# Altium integrated library NSC Interface Line Driver.IntLib: 119 symbols (part 1 of 3)
Pins are listed as number, name and electrical type; pins without a type are passive.

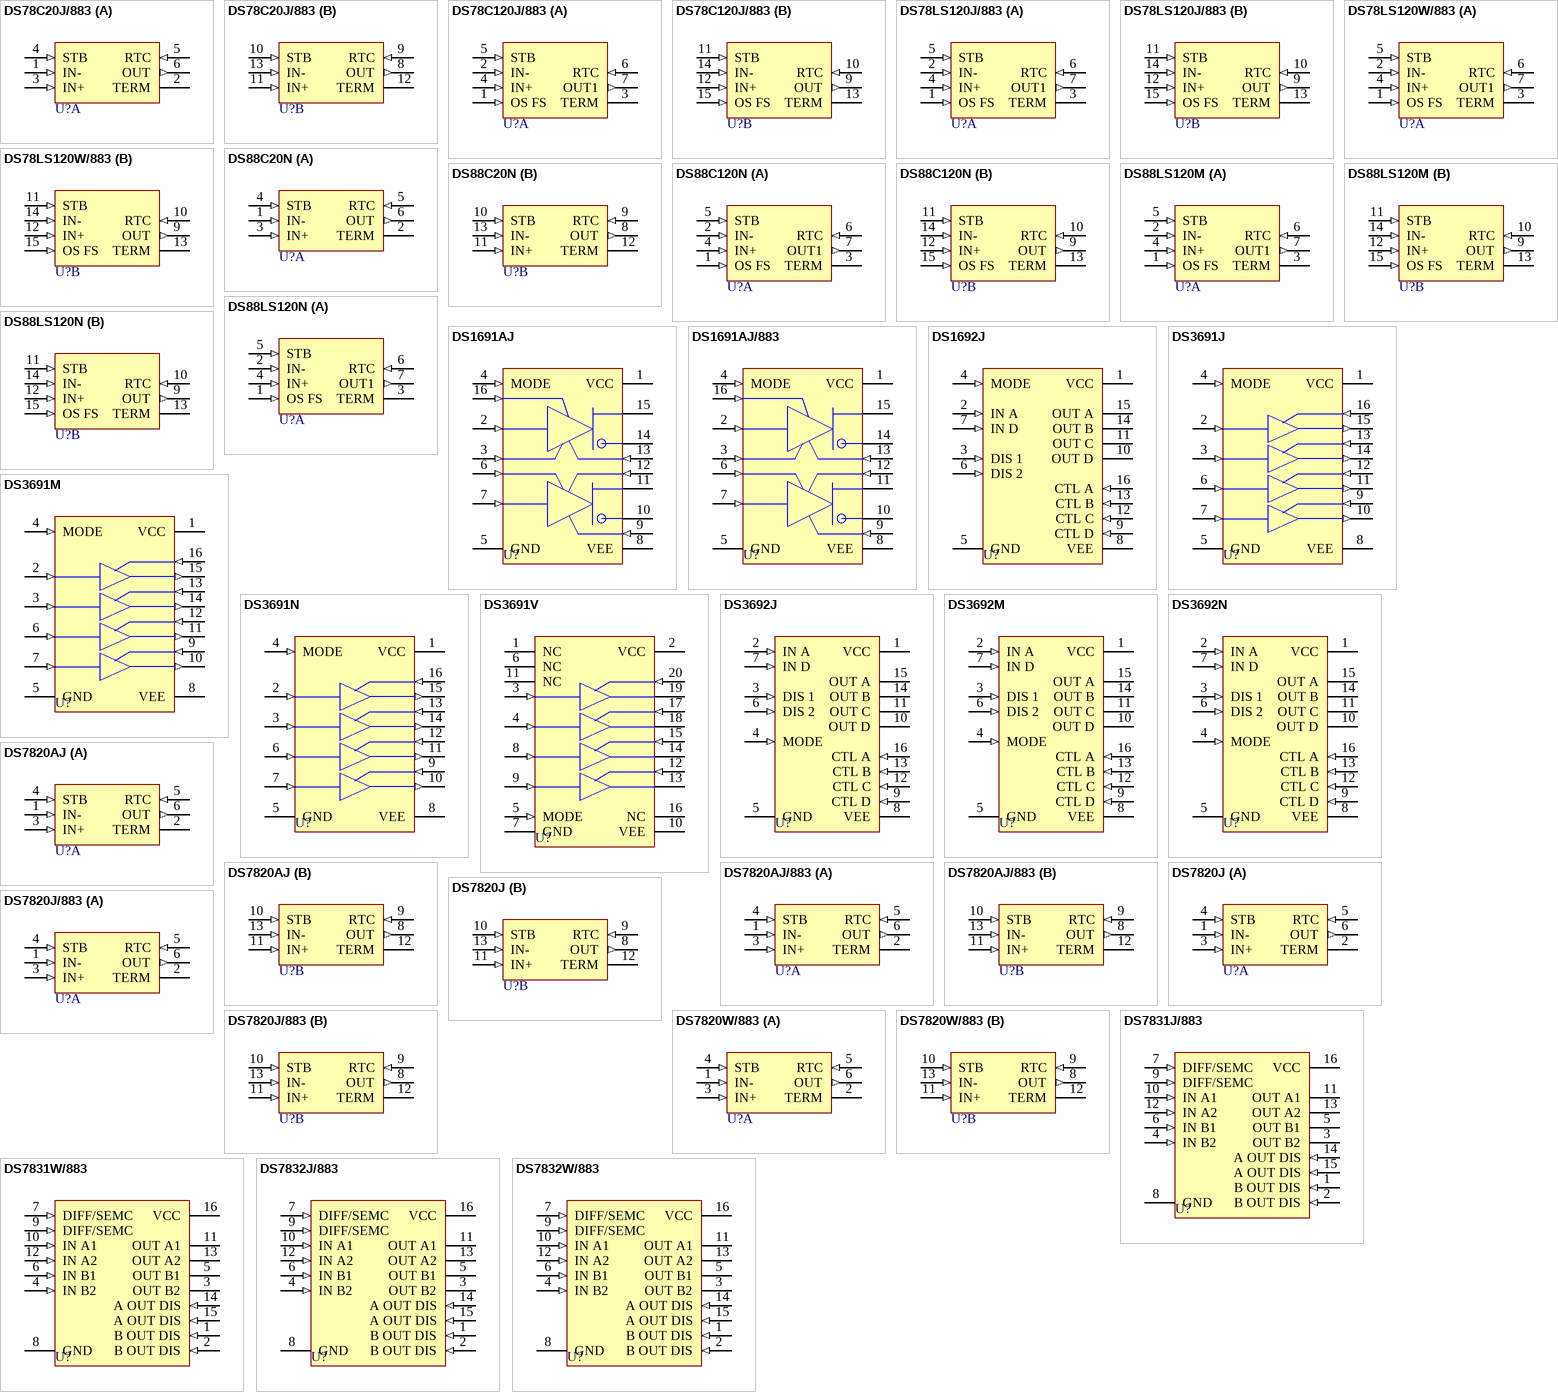
[diagram p0: symbols DS78C20J/883 to DS7832W/883]

## DS78C20J/883
designator U?
Dual CMOS Compatible Differential Line Receiver; Published: 15-Apr-2002; LatestRevisionDate: 06-Jun-2005; LatestRevisionNote: Stylized 3D Model Added.; DatasheetVersion: May-1998; PackageVersion: 2000; PackageReference: J14A; Publisher: Altium Limited; PackageDescription: DIP; 14 Leads; Row Spacing 7.62 mm; Pitch 2.54 mm; ComponentLink1Description: Manufacturer Link; ComponentLink1URL: http://www.national.com/; ComponentLink2Description: Datasheet; ComponentLink2URL: http://www.national.com/ds.cgi/DS/DS78C20.pdf; ComponentLink3Description: URL Link1; ComponentLink3URL: http://www.national.com/pf/DS/DS78C20.html
footprint J14A (DIP; 14 Leads; Row Spacing 7.62 mm; Pitch 2.54 mm)
3D model J14A (DIP; 14 Leads; Row Spacing 7.62 mm; Pitch 2.54 mm)
pins on every part: 7 GND (power) hidden to GND, 14 VCC (power) hidden to VCC
part A pins: 1 IN- (in), 2 TERM, 3 IN+ (in), 4 STB (in), 5 RTC (in), 6 OUT (out)
part B pins: 8 OUT (out), 9 RTC (in), 10 STB (in), 11 IN+ (in), 12 TERM, 13 IN- (in)

## DS78C120J/883
designator U?
Dual CMOS Compatible Differential Line Receiver; Published: 15-Apr-2002; LatestRevisionDate: 06-Jun-2005; LatestRevisionNote: Stylized 3D Model Added.; DatasheetVersion: May-1999; PackageVersion: 2000; PackageReference: J16A; Publisher: Altium Limited; PackageDescription: DIP; 16 Leads; Row Spacing 7.62 mm; Pitch 2.54 mm; ComponentLink1Description: Manufacturer Link; ComponentLink1URL: http://www.national.com/; ComponentLink2Description: Datasheet; ComponentLink2URL: http://www.national.com/ds.cgi/DS/DS78C120.pdf; ComponentLink3Description: URL Link1; ComponentLink3URL: http://www.national.com/pf/DS/DS78C120.html
footprint J16A (DIP; 16 Leads; Row Spacing 7.62 mm; Pitch 2.54 mm)
3D model J16A (DIP; 16 Leads; Row Spacing 7.62 mm; Pitch 2.54 mm)
pins on every part: 8 GND (power) hidden to GND, 16 VCC (power) hidden to VCC
part A pins: 1 OS FS (in), 2 IN- (in), 3 TERM, 4 IN+ (in), 5 STB (in), 6 RTC (in), 7 OUT1 (out)
part B pins: 9 OUT (out), 10 RTC (in), 11 STB (in), 12 IN+ (in), 13 TERM, 14 IN- (in), 15 OS FS (in)

## DS78LS120J/883
designator U?
Dual Differential Line Receiver (Noise Filtering and Fail-Safe); Published: 15-Apr-2002; LatestRevisionDate: 06-Jun-2005; LatestRevisionNote: Stylized 3D Model Added.; DatasheetVersion: Sep-1999; PackageVersion: 2000; PackageReference: J16A; Publisher: Altium Limited; PackageDescription: DIP; 16 Leads; Row Spacing 7.62 mm; Pitch 2.54 mm; ComponentLink1Description: Manufacturer Link; ComponentLink1URL: http://www.national.com/; ComponentLink2Description: Datasheet; ComponentLink2URL: http://www.national.com/ds.cgi/DS/DS78LS120.pdf; ComponentLink3Description: URL Link1; ComponentLink3URL: http://www.national.com/pf/DS/DS78LS120.html
footprint J16A (DIP; 16 Leads; Row Spacing 7.62 mm; Pitch 2.54 mm)
3D model J16A (DIP; 16 Leads; Row Spacing 7.62 mm; Pitch 2.54 mm)
pins on every part: 8 GND (power) hidden to GND, 16 VCC (power) hidden to VCC
part A pins: 1 OS FS (in), 2 IN- (in), 3 TERM, 4 IN+ (in), 5 STB (in), 6 RTC (in), 7 OUT1 (out)
part B pins: 9 OUT (out), 10 RTC (in), 11 STB (in), 12 IN+ (in), 13 TERM, 14 IN- (in), 15 OS FS (in)

## DS78LS120W/883
designator U?
Dual Differential Line Receiver (Noise Filtering and Fail-Safe); ComponentAvailability: Obsolete; Published: 15-Apr-2002; LatestRevisionDate: 06-Jun-2005; LatestRevisionNote: Stylized 3D Model Added.; DatasheetVersion: Sep-1999; PackageVersion: 2000; PackageReference: W16A; Publisher: Altium Limited; PackageDescription: DFP; 16 Leads; Body 9.9 x 7.6 mm (LxW max); Pitch 1.27 mm; ComponentLink1Description: Manufacturer Link; ComponentLink1URL: http://www.national.com/; ComponentLink2Description: Datasheet; ComponentLink2URL: http://www.national.com/ds.cgi/DS/DS78LS120.pdf; ComponentLink3Description: Discontinuation Notice; ComponentLink3URL: http://www.national.com/obs/obsolescence.txt; ComponentLink4Description: URL Link1; ComponentLink4URL: http://www.national.com/pf/DS/DS78LS120.html
footprint W16A (DFP; 16 Leads; Body 9.9 x 7.6 mm (LxW max); Pitch 1.27 mm)
3D model W16A (DFP; 16 Leads; Body 9.9 x 7.6 mm (LxW max); Pitch 1.27 mm)
pins on every part: 8 GND (power) hidden to GND, 16 VCC (power) hidden to VCC
part A pins: 1 OS FS (in), 2 IN- (in), 3 TERM, 4 IN+ (in), 5 STB (in), 6 RTC (in), 7 OUT1 (out)
part B pins: 9 OUT (out), 10 RTC (in), 11 STB (in), 12 IN+ (in), 13 TERM, 14 IN- (in), 15 OS FS (in)

## DS88C20N
designator U?
Dual CMOS Compatible Differential Line Receiver; ComponentAvailability: Obsolete; Published: 15-Apr-2002; LatestRevisionDate: 06-Jun-2005; LatestRevisionNote: Stylized 3D Model Added.; DatasheetVersion: May-1998; PackageVersion: 2000; PackageReference: N14A; Publisher: Altium Limited; PackageDescription: DIP; 14 Leads; Row Spacing 7.62 mm; Pitch 2.54 mm; ComponentLink1Description: Manufacturer Link; ComponentLink1URL: http://www.national.com/; ComponentLink2Description: Datasheet; ComponentLink2URL: http://www.national.com/ds.cgi/DS/DS78C20.pdf; ComponentLink3Description: Discontinuation Notice; ComponentLink3URL: http://www.national.com/obs/obsolescence.txt; ComponentLink4Description: URL Link1; ComponentLink4URL: http://www.national.com/pf/DS/DS88C20.html
footprint N14A (DIP; 14 Leads; Row Spacing 7.62 mm; Pitch 2.54 mm)
3D model N14A (DIP; 14 Leads; Row Spacing 7.62 mm; Pitch 2.54 mm)
pins on every part: 7 GND (power) hidden to GND, 14 VCC (power) hidden to VCC
part A pins: 1 IN- (in), 2 TERM, 3 IN+ (in), 4 STB (in), 5 RTC (in), 6 OUT (out)
part B pins: 8 OUT (out), 9 RTC (in), 10 STB (in), 11 IN+ (in), 12 TERM, 13 IN- (in)

## DS88C120N
designator U?
Dual CMOS Compatible Differential Line Receiver; ComponentAvailability: Obsolete; Published: 15-Apr-2002; LatestRevisionDate: 06-Jun-2005; LatestRevisionNote: Stylized 3D Model Added.; DatasheetVersion: 1996; PackageVersion: 2000; PackageReference: N16A; Publisher: Altium Limited; PackageDescription: DIP; 16 Leads; Row Spacing 7.62 mm; Pitch 2.54 mm; ComponentLink1Description: Manufacturer Link; ComponentLink1URL: http://www.national.com/; ComponentLink2Description: Discontinuation Notice; ComponentLink2URL: http://www.national.com/obs/obsolescence.txt
footprint N16A (DIP; 16 Leads; Row Spacing 7.62 mm; Pitch 2.54 mm)
3D model N16A (DIP; 16 Leads; Row Spacing 7.62 mm; Pitch 2.54 mm)
pins on every part: 8 GND (power) hidden to GND, 16 VCC (power) hidden to VCC
part A pins: 1 OS FS (in), 2 IN- (in), 3 TERM, 4 IN+ (in), 5 STB (in), 6 RTC (in), 7 OUT1 (out)
part B pins: 9 OUT (out), 10 RTC (in), 11 STB (in), 12 IN+ (in), 13 TERM, 14 IN- (in), 15 OS FS (in)

## DS88LS120M
designator U?
Dual Differential Line Receiver (Noise Filtering and Fail-Safe); ComponentAvailability: Obsolete; Published: 15-Apr-2002; LatestRevisionDate: 13-Apr-2006; LatestRevisionNote: IPC-7351 Footprint Added.; DatasheetVersion: 1996; PackageVersion: 2000; PackageReference: M16A; Publisher: Altium Limited; PackageDescription: 16-Pin Small Outline Integrated Circuit 1.27 mm Pitch; Code_IPC: SOIC127P600-16; ComponentLink1Description: Manufacturer Link; ComponentLink1URL: http://www.national.com/; ComponentLink2Description: Discontinuation Notice; ComponentLink2URL: http://www.national.com/obs/obsolescence.txt
footprint M16A_N (SOIC, 16-Leads, Body 9.9x3.9mm, Pitch 1.27mm, IPC Medium Density)
footprint M16A_L (SOIC, 16-Leads, Body 9.9x3.9mm, Pitch 1.27mm, IPC High Density)
footprint M16A_M (SOIC, 16-Leads, Body 9.9x3.9mm, Pitch 1.27mm, IPC Low Density)
3D model M16A (16-Pin Small Outline Integrated Circuit 1.27 mm Pitch)
pins on every part: 8 GND (power) hidden to GND, 16 VCC (power) hidden to VCC
part A pins: 1 OS FS (in), 2 IN- (in), 3 TERM, 4 IN+ (in), 5 STB (in), 6 RTC (in), 7 OUT1 (out)
part B pins: 9 OUT (out), 10 RTC (in), 11 STB (in), 12 IN+ (in), 13 TERM, 14 IN- (in), 15 OS FS (in)

## DS88LS120N
designator U?
Dual Differential Line Receiver (Noise Filtering and Fail-Safe); ComponentAvailability: Obsolete; Published: 15-Apr-2002; LatestRevisionDate: 06-Jun-2005; LatestRevisionNote: Stylized 3D Model Added.; DatasheetVersion: 1996; PackageVersion: 2000; PackageReference: N16A; Publisher: Altium Limited; PackageDescription: DIP; 16 Leads; Row Spacing 7.62 mm; Pitch 2.54 mm; ComponentLink1Description: Manufacturer Link; ComponentLink1URL: http://www.national.com/; ComponentLink2Description: Discontinuation Notice; ComponentLink2URL: http://www.national.com/obs/obsolescence.txt
footprint N16A (DIP; 16 Leads; Row Spacing 7.62 mm; Pitch 2.54 mm)
3D model N16A (DIP; 16 Leads; Row Spacing 7.62 mm; Pitch 2.54 mm)
pins on every part: 8 GND (power) hidden to GND, 16 VCC (power) hidden to VCC
part A pins: 1 OS FS (in), 2 IN- (in), 3 TERM, 4 IN+ (in), 5 STB (in), 6 RTC (in), 7 OUT1 (out)
part B pins: 9 OUT (out), 10 RTC (in), 11 STB (in), 12 IN+ (in), 13 TERM, 14 IN- (in), 15 OS FS (in)

## DS1691AJ
designator U?
Line Driver with Tri-State Output; Published: 15-Apr-2002; LatestRevisionDate: 06-Jun-2005; LatestRevisionNote: Stylized 3D Model Added.; DatasheetVersion: 1996; PackageVersion: 2000; PackageReference: J16A; Publisher: Altium Limited; PackageDescription: DIP; 16 Leads; Row Spacing 7.62 mm; Pitch 2.54 mm; ComponentLink1Description: Manufacturer Link; ComponentLink1URL: http://www.national.com/; ComponentLink2Description: Datasheet; ComponentLink2URL: http://www.national.com/ds.cgi/DS/DS1691A.pdf; ComponentLink3Description: URL Link1; ComponentLink3URL: http://www.national.com/pf/DS/DS1691A.html
footprint J16A (DIP; 16 Leads; Row Spacing 7.62 mm; Pitch 2.54 mm)
3D model J16A (DIP; 16 Leads; Row Spacing 7.62 mm; Pitch 2.54 mm)
pins: 1 VCC (power), 2 IN A (in), 3 IN B/DIS (in), 4 MODE (in), 5 GND (power), 6 IN C/DIS (in), 7 IN D (in), 8 VEE (power), 9 CTL D (in), 10 OUT D (hiz), 11 OUT C (hiz), 12 CTL C (in), 13 CTL B (in), 14 OUT B (hiz), 15 OUT A (hiz), 16 CTL A (in)

## DS1691AJ/883
designator U?
Line Driver with Tri-State Output; Published: 15-Apr-2002; LatestRevisionDate: 06-Jun-2005; LatestRevisionNote: Stylized 3D Model Added.; DatasheetVersion: 1996; PackageVersion: 2000; PackageReference: J16A; Publisher: Altium Limited; PackageDescription: DIP; 16 Leads; Row Spacing 7.62 mm; Pitch 2.54 mm; ComponentLink1Description: Manufacturer Link; ComponentLink1URL: http://www.national.com/; ComponentLink2Description: Datasheet; ComponentLink2URL: http://www.national.com/ds.cgi/DS/DS1691A.pdf; ComponentLink3Description: URL Link1; ComponentLink3URL: http://www.national.com/pf/DS/DS1691A.html
footprint J16A (DIP; 16 Leads; Row Spacing 7.62 mm; Pitch 2.54 mm)
3D model J16A (DIP; 16 Leads; Row Spacing 7.62 mm; Pitch 2.54 mm)
pins: 1 VCC (power), 2 IN A (in), 3 IN B/DIS (in), 4 MODE (in), 5 GND (power), 6 IN C/DIS (in), 7 IN D (in), 8 VEE (power), 9 CTL D (in), 10 OUT D (hiz), 11 OUT C (hiz), 12 CTL C (in), 13 CTL B (in), 14 OUT B (hiz), 15 OUT A (hiz), 16 CTL A (in)

## DS1692J
designator U?
Three-State Differential Line Driver; ComponentAvailability: Obsolete; Published: 15-Apr-2002; LatestRevisionDate: 06-Jun-2005; LatestRevisionNote: Stylized 3D Model Added.; DatasheetVersion: Mar-1992; PackageVersion: 2000; PackageReference: J16A; Publisher: Altium Limited; PackageDescription: DIP; 16 Leads; Row Spacing 7.62 mm; Pitch 2.54 mm; ComponentLink1Description: Manufacturer Link; ComponentLink1URL: http://www.national.com/; ComponentLink2Description: Datasheet; ComponentLink2URL: http://www.national.com/ds.cgi/DS/DS1692.pdf; ComponentLink3Description: Discontinuation Notice; ComponentLink3URL: http://www.national.com/obs/obsolescence.txt
footprint J16A (DIP; 16 Leads; Row Spacing 7.62 mm; Pitch 2.54 mm)
3D model J16A (DIP; 16 Leads; Row Spacing 7.62 mm; Pitch 2.54 mm)
pins: 1 VCC (power), 2 IN A (in), 3 DIS 1 (in), 4 MODE (in), 5 GND (power), 6 DIS 2 (in), 7 IN D (in), 8 VEE (power), 9 CTL D (in), 10 OUT D (hiz), 11 OUT C (hiz), 12 CTL C (in), 13 CTL B (in), 14 OUT B (hiz), 15 OUT A (hiz), 16 CTL A (in)

## DS3691J
designator U?
Line Driver with Tri-State Output; ComponentAvailability: Obsolete; Published: 15-Apr-2002; LatestRevisionDate: 06-Jun-2005; LatestRevisionNote: Stylized 3D Model Added.; DatasheetVersion: 1996; PackageVersion: 2000; PackageReference: J16A; Publisher: Altium Limited; PackageDescription: DIP; 16 Leads; Row Spacing 7.62 mm; Pitch 2.54 mm; ComponentLink1Description: Manufacturer Link; ComponentLink1URL: http://www.national.com/; ComponentLink2Description: Datasheet; ComponentLink2URL: http://www.national.com/ds.cgi/DS/DS1691A.pdf; ComponentLink3Description: Discontinuation Notice; ComponentLink3URL: http://www.national.com/obs/obsolescence.txt; ComponentLink4Description: URL Link1; ComponentLink4URL: http://www.national.com/pf/DS/DS3691.html
footprint J16A (DIP; 16 Leads; Row Spacing 7.62 mm; Pitch 2.54 mm)
3D model J16A (DIP; 16 Leads; Row Spacing 7.62 mm; Pitch 2.54 mm)
pins: 1 VCC (power), 2 IN A (in), 3 IN B/DIS (in), 4 MODE (in), 5 GND (power), 6 IN C/DIS (in), 7 IN D (in), 8 VEE (power), 9 CTL D (in), 10 OUT D (out), 11 OUT C (out), 12 CTL C (in), 13 CTL B (in), 14 OUT B (out), 15 OUT A (out), 16 CTL A (in)

## DS3691M
designator U?
Line Driver with Tri-State Output; Published: 15-Apr-2002; LatestRevisionDate: 13-Apr-2006; LatestRevisionNote: IPC-7351 Footprint Added.; DatasheetVersion: 1996; PackageVersion: 2000; PackageReference: M16A; Publisher: Altium Limited; PackageDescription: 16-Pin Small Outline Integrated Circuit 1.27 mm Pitch; Code_IPC: SOIC127P600-16; ComponentLink1Description: Manufacturer Link; ComponentLink1URL: http://www.national.com/; ComponentLink2Description: Datasheet; ComponentLink2URL: http://www.national.com/ds.cgi/DS/DS1691A.pdf; ComponentLink3Description: URL Link1; ComponentLink3URL: http://www.national.com/pf/DS/DS3691.html
footprint M16A_N (SOIC, 16-Leads, Body 9.9x3.9mm, Pitch 1.27mm, IPC Medium Density)
footprint M16A_L (SOIC, 16-Leads, Body 9.9x3.9mm, Pitch 1.27mm, IPC High Density)
footprint M16A_M (SOIC, 16-Leads, Body 9.9x3.9mm, Pitch 1.27mm, IPC Low Density)
3D model M16A (16-Pin Small Outline Integrated Circuit 1.27 mm Pitch)
pins: 1 VCC (power), 2 IN A (in), 3 IN B/DIS (in), 4 MODE (in), 5 GND (power), 6 IN C/DIS (in), 7 IN D (in), 8 VEE (power), 9 CTL D (in), 10 OUT D (out), 11 OUT C (out), 12 CTL C (in), 13 CTL B (in), 14 OUT B (out), 15 OUT A (out), 16 CTL A (in)

## DS3691N
designator U?
Line Driver with Tri-State Output; Published: 15-Apr-2002; LatestRevisionDate: 06-Jun-2005; LatestRevisionNote: Stylized 3D Model Added.; DatasheetVersion: 1996; PackageVersion: 2000; PackageReference: N16A; Publisher: Altium Limited; PackageDescription: DIP; 16 Leads; Row Spacing 7.62 mm; Pitch 2.54 mm; ComponentLink1Description: Manufacturer Link; ComponentLink1URL: http://www.national.com/; ComponentLink2Description: Datasheet; ComponentLink2URL: http://www.national.com/ds.cgi/DS/DS1691A.pdf; ComponentLink3Description: URL Link1; ComponentLink3URL: http://www.national.com/pf/DS/DS3691.html
footprint N16A (DIP; 16 Leads; Row Spacing 7.62 mm; Pitch 2.54 mm)
3D model N16A (DIP; 16 Leads; Row Spacing 7.62 mm; Pitch 2.54 mm)
pins: 1 VCC (power), 2 IN A (in), 3 IN B/DIS (in), 4 MODE (in), 5 GND (power), 6 IN C/DIS (in), 7 IN D (in), 8 VEE (power), 9 CTL D (in), 10 OUT D (out), 11 OUT C (out), 12 CTL C (in), 13 CTL B (in), 14 OUT B (out), 15 OUT A (out), 16 CTL A (in)

## DS3691V
designator U?
Line Driver with Tri-State Output; ComponentAvailability: Obsolete; Published: 15-Apr-2002; LatestRevisionDate: 13-Apr-2006; LatestRevisionNote: IPC-7351 Footprint Added.; DatasheetVersion: 1996; PackageVersion: 1996; PackageReference: V20A; Publisher: Altium Limited; PackageDescription: 20-Pin Leaded Chip Carrier 1.27 mm Pitch; Code_IPC: PLCC-20; ComponentLink1Description: Manufacturer Link; ComponentLink1URL: http://www.national.com/; ComponentLink2Description: Datasheet; ComponentLink2URL: http://www.national.com/ds.cgi/DS/DS1691A.pdf; ComponentLink3Description: Discontinuation Notice; ComponentLink3URL: http://www.national.com/obs/obsolescence.txt; ComponentLink4Description: URL Link1; ComponentLink4URL: http://www.national.com/pf/DS/DS3691.html
footprint V20A_N (Leaded Chip Carrier, 20-Leads, Body 9x9mm, Pitch 1.27mm, IPC Medium Density)
footprint V20A_L (Leaded Chip Carrier, 20-Leads, Body 9x9mm, Pitch 1.27mm, IPC High Density)
footprint V20A_M (Leaded Chip Carrier, 20-Leads, Body 9x9mm, Pitch 1.27mm, IPC Low Density)
3D model DS3691-V20A (20-Pin Leaded Chip Carrier 1.27 mm Pitch)
pins: 1 NC, 2 VCC (power), 3 IN A (in), 4 IN B/DIS (in), 5 MODE (in), 6 NC, 7 GND (power), 8 IN C/DIS (in), 9 IN D (in), 10 VEE (power), 11 NC, 12 CTL D (in), 13 OUT D (hiz), 14 OUT C (hiz), 15 CTL C (in), 16 NC, 17 CTL B (in), 18 OUT B (hiz), 19 OUT A (hiz), 20 CTL A (in)

## DS3692J
designator U?
Three-State Differential Line Driver; ComponentAvailability: Obsolete; Published: 15-Apr-2002; LatestRevisionDate: 06-Jun-2005; LatestRevisionNote: Stylized 3D Model Added.; DatasheetVersion: Mar-1992; PackageVersion: 2000; PackageReference: J16A; Publisher: Altium Limited; PackageDescription: DIP; 16 Leads; Row Spacing 7.62 mm; Pitch 2.54 mm; ComponentLink1Description: Manufacturer Link; ComponentLink1URL: http://www.national.com/; ComponentLink2Description: Datasheet; ComponentLink2URL: http://www.national.com/ds.cgi/DS/DS1692.pdf; ComponentLink3Description: Discontinuation Notice; ComponentLink3URL: http://www.national.com/obs/obsolescence.txt
footprint J16A (DIP; 16 Leads; Row Spacing 7.62 mm; Pitch 2.54 mm)
3D model J16A (DIP; 16 Leads; Row Spacing 7.62 mm; Pitch 2.54 mm)
pins: 1 VCC (power), 2 IN A (in), 3 DIS 1 (in), 4 MODE (in), 5 GND (power), 6 DIS 2 (in), 7 IN D (in), 8 VEE (power), 9 CTL D (in), 10 OUT D (hiz), 11 OUT C (hiz), 12 CTL C (in), 13 CTL B (in), 14 OUT B (hiz), 15 OUT A (hiz), 16 CTL A (in)

## DS3692M
designator U?
Three-State Differential Line Driver; ComponentAvailability: Obsolete; Published: 15-Apr-2002; LatestRevisionDate: 13-Apr-2006; LatestRevisionNote: IPC-7351 Footprint Added.; DatasheetVersion: Mar-1992; PackageVersion: 2000; PackageReference: M16A; Publisher: Altium Limited; PackageDescription: 16-Pin Small Outline Integrated Circuit 1.27 mm Pitch; Code_IPC: SOIC127P600-16; ComponentLink1Description: Manufacturer Link; ComponentLink1URL: http://www.national.com/; ComponentLink2Description: Datasheet; ComponentLink2URL: http://www.national.com/ds.cgi/DS/DS1692.pdf; ComponentLink3Description: Discontinuation Notice; ComponentLink3URL: http://www.national.com/obs/obsolescence.txt
footprint M16A_N (SOIC, 16-Leads, Body 9.9x3.9mm, Pitch 1.27mm, IPC Medium Density)
footprint M16A_L (SOIC, 16-Leads, Body 9.9x3.9mm, Pitch 1.27mm, IPC High Density)
footprint M16A_M (SOIC, 16-Leads, Body 9.9x3.9mm, Pitch 1.27mm, IPC Low Density)
3D model M16A (16-Pin Small Outline Integrated Circuit 1.27 mm Pitch)
pins: 1 VCC (power), 2 IN A (in), 3 DIS 1 (in), 4 MODE (in), 5 GND (power), 6 DIS 2 (in), 7 IN D (in), 8 VEE (power), 9 CTL D (in), 10 OUT D (hiz), 11 OUT C (hiz), 12 CTL C (in), 13 CTL B (in), 14 OUT B (hiz), 15 OUT A (hiz), 16 CTL A (in)

## DS3692N
designator U?
Three-State Differential Line Driver; ComponentAvailability: Obsolete; Published: 15-Apr-2002; LatestRevisionDate: 06-Jun-2005; LatestRevisionNote: Stylized 3D Model Added.; DatasheetVersion: Mar-1992; PackageVersion: 2000; PackageReference: N16A; Publisher: Altium Limited; PackageDescription: DIP; 16 Leads; Row Spacing 7.62 mm; Pitch 2.54 mm; ComponentLink1Description: Manufacturer Link; ComponentLink1URL: http://www.national.com/; ComponentLink2Description: Datasheet; ComponentLink2URL: http://www.national.com/ds.cgi/DS/DS1692.pdf; ComponentLink3Description: Discontinuation Notice; ComponentLink3URL: http://www.national.com/obs/obsolescence.txt
footprint N16A (DIP; 16 Leads; Row Spacing 7.62 mm; Pitch 2.54 mm)
3D model N16A (DIP; 16 Leads; Row Spacing 7.62 mm; Pitch 2.54 mm)
pins: 1 VCC (power), 2 IN A (in), 3 DIS 1 (in), 4 MODE (in), 5 GND (power), 6 DIS 2 (in), 7 IN D (in), 8 VEE (power), 9 CTL D (in), 10 OUT D (hiz), 11 OUT C (hiz), 12 CTL C (in), 13 CTL B (in), 14 OUT B (hiz), 15 OUT A (hiz), 16 CTL A (in)

## DS7820AJ
designator U?
Dual Line Receiver; ComponentAvailability: Obsolete; Published: 15-Apr-2002; LatestRevisionDate: 06-Jun-2005; LatestRevisionNote: Stylized 3D Model Added.; DatasheetVersion: May-1999; PackageVersion: 2000; PackageReference: J14A; Publisher: Altium Limited; PackageDescription: DIP; 14 Leads; Row Spacing 7.62 mm; Pitch 2.54 mm; ComponentLink1Description: Manufacturer Link; ComponentLink1URL: http://www.national.com/; ComponentLink2Description: Discontinuation Notice; ComponentLink2URL: http://www.national.com/obs/obsolescence.txt; ComponentLink3Description: URL Link1; ComponentLink3URL: http://www.national.com/pf/DS/DS7820A.html
footprint J14A (DIP; 14 Leads; Row Spacing 7.62 mm; Pitch 2.54 mm)
3D model J14A (DIP; 14 Leads; Row Spacing 7.62 mm; Pitch 2.54 mm)
pins on every part: 7 GND (power) hidden to GND, 14 VCC (power) hidden to VCC
part A pins: 1 IN- (in), 2 TERM, 3 IN+ (in), 4 STB (in), 5 RTC (in), 6 OUT (out)
part B pins: 8 OUT (out), 9 RTC (in), 10 STB (in), 11 IN+ (in), 12 TERM, 13 IN- (in)

## DS7820AJ/883
designator U?
Dual Line Receiver; ComponentAvailability: Obsolete; Published: 15-Apr-2002; LatestRevisionDate: 06-Jun-2005; LatestRevisionNote: Stylized 3D Model Added.; DatasheetVersion: May-1999; PackageVersion: 2000; PackageReference: J14A; Publisher: Altium Limited; PackageDescription: DIP; 14 Leads; Row Spacing 7.62 mm; Pitch 2.54 mm; ComponentLink1Description: Manufacturer Link; ComponentLink1URL: http://www.national.com/; ComponentLink2Description: Discontinuation Notice; ComponentLink2URL: http://www.national.com/obs/obsolescence.txt; ComponentLink3Description: URL Link1; ComponentLink3URL: http://www.national.com/pf/DS/DS7820A.html
footprint J14A (DIP; 14 Leads; Row Spacing 7.62 mm; Pitch 2.54 mm)
3D model J14A (DIP; 14 Leads; Row Spacing 7.62 mm; Pitch 2.54 mm)
pins on every part: 7 GND (power) hidden to GND, 14 VCC (power) hidden to VCC
part A pins: 1 IN- (in), 2 TERM, 3 IN+ (in), 4 STB (in), 5 RTC (in), 6 OUT (out)
part B pins: 8 OUT (out), 9 RTC (in), 10 STB (in), 11 IN+ (in), 12 TERM, 13 IN- (in)

## DS7820J
designator U?
Dual Line Receiver; ComponentAvailability: Obsolete; Published: 15-Apr-2002; LatestRevisionDate: 06-Jun-2005; LatestRevisionNote: Stylized 3D Model Added.; DatasheetVersion: 1996; PackageVersion: 2000; PackageReference: J14A; Publisher: Altium Limited; PackageDescription: DIP; 14 Leads; Row Spacing 7.62 mm; Pitch 2.54 mm; ComponentLink1Description: Manufacturer Link; ComponentLink1URL: http://www.national.com/; ComponentLink2Description: Datasheet; ComponentLink2URL: http://www.national.com/ds.cgi/DS/DS7820.pdf; ComponentLink3Description: Discontinuation Notice; ComponentLink3URL: http://www.national.com/obs/obsolescence.txt; ComponentLink4Description: URL Link1; ComponentLink4URL: http://www.national.com/pf/DS/DS7820.html
footprint J14A (DIP; 14 Leads; Row Spacing 7.62 mm; Pitch 2.54 mm)
3D model J14A (DIP; 14 Leads; Row Spacing 7.62 mm; Pitch 2.54 mm)
pins on every part: 7 GND (power) hidden to GND, 14 VCC (power) hidden to VCC
part A pins: 1 IN- (in), 2 TERM, 3 IN+ (in), 4 STB (in), 5 RTC (in), 6 OUT (out)
part B pins: 8 OUT (out), 9 RTC (in), 10 STB (in), 11 IN+ (in), 12 TERM, 13 IN- (in)

## DS7820J/883
designator U?
Dual Line Receiver; ComponentAvailability: Obsolete; Published: 15-Apr-2002; LatestRevisionDate: 06-Jun-2005; LatestRevisionNote: Stylized 3D Model Added.; DatasheetVersion: Sep-1999; PackageVersion: 2000; PackageReference: J14A; Publisher: Altium Limited; PackageDescription: DIP; 14 Leads; Row Spacing 7.62 mm; Pitch 2.54 mm; ComponentLink1Description: Manufacturer Link; ComponentLink1URL: http://www.national.com/; ComponentLink2Description: Datasheet; ComponentLink2URL: http://www.national.com/ds.cgi/DS/DS7820.pdf; ComponentLink3Description: Discontinuation Notice; ComponentLink3URL: http://www.national.com/obs/obsolescence.txt; ComponentLink4Description: URL Link1; ComponentLink4URL: http://www.national.com/pf/DS/DS7820.html
footprint J14A (DIP; 14 Leads; Row Spacing 7.62 mm; Pitch 2.54 mm)
3D model J14A (DIP; 14 Leads; Row Spacing 7.62 mm; Pitch 2.54 mm)
pins on every part: 7 GND (power) hidden to GND, 14 VCC (power) hidden to VCC
part A pins: 1 IN- (in), 2 TERM, 3 IN+ (in), 4 STB (in), 5 RTC (in), 6 OUT (out)
part B pins: 8 OUT (out), 9 RTC (in), 10 STB (in), 11 IN+ (in), 12 TERM, 13 IN- (in)

## DS7820W/883
designator U?
Dual Line Receiver; ComponentAvailability: Obsolete; Published: 15-Apr-2002; LatestRevisionDate: 06-Jun-2005; LatestRevisionNote: Stylized 3D Model Added.; DatasheetVersion: 1996; PackageVersion: 1990; PackageReference: W14B; Publisher: Altium Limited; PackageDescription: DFP; 14 Leads; Body 9.8 x 7.1 mm (LxW max); Pitch 1.27 mm; ComponentLink1Description: Manufacturer Link; ComponentLink1URL: http://www.national.com/; ComponentLink2Description: Datasheet; ComponentLink2URL: http://www.national.com/ds.cgi/DS/DS7820.pdf; ComponentLink3Description: Discontinuation Notice; ComponentLink3URL: http://www.national.com/obs/obsolescence.txt; ComponentLink4Description: URL Link1; ComponentLink4URL: http://www.national.com/pf/DS/DS7820.html
footprint W14B (DFP; 14 Leads; Body 9.8 x 7.1 mm (LxW max); Pitch 1.27 mm)
3D model W14B (DFP; 14 Leads; Body 9.8 x 7.1 mm (LxW max); Pitch 1.27 mm)
pins on every part: 7 GND (power) hidden to GND, 14 VCC (power) hidden to VCC
part A pins: 1 IN- (in), 2 TERM, 3 IN+ (in), 4 STB (in), 5 RTC (in), 6 OUT (out)
part B pins: 8 OUT (out), 9 RTC (in), 10 STB (in), 11 IN+ (in), 12 TERM, 13 IN- (in)

## DS7831J/883
designator U?
Dual Tri-State Line Driver; ComponentAvailability: Obsolete; Published: 15-Apr-2002; LatestRevisionDate: 06-Jun-2005; LatestRevisionNote: Stylized 3D Model Added.; DatasheetVersion: May-1999; PackageVersion: 2000; PackageReference: J16A; Publisher: Altium Limited; PackageDescription: DIP; 16 Leads; Row Spacing 7.62 mm; Pitch 2.54 mm; ComponentLink1Description: Manufacturer Link; ComponentLink1URL: http://www.national.com/; ComponentLink2Description: Datasheet; ComponentLink2URL: http://www.national.com/ds.cgi/DS/DS7831.pdf; ComponentLink3Description: Discontinuation Notice; ComponentLink3URL: http://www.national.com/obs/obsolescence.txt; ComponentLink4Description: URL Link1; ComponentLink4URL: http://www.national.com/pf/DS/DS7831.html
footprint J16A (DIP; 16 Leads; Row Spacing 7.62 mm; Pitch 2.54 mm)
3D model J16A (DIP; 16 Leads; Row Spacing 7.62 mm; Pitch 2.54 mm)
pins: 1 B OUT DIS (in), 2 B OUT DIS (in), 3 OUT B2 (hiz), 4 IN B2 (in), 5 OUT B1 (hiz), 6 IN B1 (in), 7 DIFF/SEMC (in), 8 GND (power), 9 DIFF/SEMC (in), 10 IN A1 (in), 11 OUT A1 (hiz), 12 IN A2 (in), 13 OUT A2 (hiz), 14 A OUT DIS (in), 15 A OUT DIS (in), 16 VCC (power)

## DS7831W/883
designator U?
Dual Tri-State Line Driver; ComponentAvailability: Obsolete; Published: 15-Apr-2002; LatestRevisionDate: 06-Jun-2005; LatestRevisionNote: Stylized 3D Model Added.; DatasheetVersion: May-1999; PackageVersion: 2000; PackageReference: W16A; Publisher: Altium Limited; PackageDescription: DFP; 16 Leads; Body 9.9 x 7.6 mm (LxW max); Pitch 1.27 mm; ComponentLink1Description: Manufacturer Link; ComponentLink1URL: http://www.national.com/; ComponentLink2Description: Datasheet; ComponentLink2URL: http://www.national.com/ds.cgi/DS/DS7831.pdf; ComponentLink3Description: Discontinuation Notice; ComponentLink3URL: http://www.national.com/obs/obsolescence.txt; ComponentLink4Description: URL Link1; ComponentLink4URL: http://www.national.com/pf/DS/DS7831.html
footprint W16A (DFP; 16 Leads; Body 9.9 x 7.6 mm (LxW max); Pitch 1.27 mm)
3D model W16A (DFP; 16 Leads; Body 9.9 x 7.6 mm (LxW max); Pitch 1.27 mm)
pins: 1 B OUT DIS (in), 2 B OUT DIS (in), 3 OUT B2 (hiz), 4 IN B2 (in), 5 OUT B1 (hiz), 6 IN B1 (in), 7 DIFF/SEMC (in), 8 GND (power), 9 DIFF/SEMC (in), 10 IN A1 (in), 11 OUT A1 (hiz), 12 IN A2 (in), 13 OUT A2 (hiz), 14 A OUT DIS (in), 15 A OUT DIS (in), 16 VCC (power)

## DS7832J/883
designator U?
Dual Tri-State Line Driver; Published: 15-Apr-2002; LatestRevisionDate: 06-Jun-2005; LatestRevisionNote: Stylized 3D Model Added.; DatasheetVersion: 1996; PackageVersion: 2000; PackageReference: J16A; Publisher: Altium Limited; PackageDescription: DIP; 16 Leads; Row Spacing 7.62 mm; Pitch 2.54 mm; ComponentLink1Description: Manufacturer Link; ComponentLink1URL: http://www.national.com/; ComponentLink2Description: Discontinuation Notice; ComponentLink2URL: http://www.national.com/obs/obsolescence.txt
footprint J16A (DIP; 16 Leads; Row Spacing 7.62 mm; Pitch 2.54 mm)
3D model J16A (DIP; 16 Leads; Row Spacing 7.62 mm; Pitch 2.54 mm)
pins: 1 B OUT DIS (in), 2 B OUT DIS (in), 3 OUT B2 (hiz), 4 IN B2 (in), 5 OUT B1 (hiz), 6 IN B1 (in), 7 DIFF/SEMC (in), 8 GND (power), 9 DIFF/SEMC (in), 10 IN A1 (in), 11 OUT A1 (hiz), 12 IN A2 (in), 13 OUT A2 (hiz), 14 A OUT DIS (in), 15 A OUT DIS (in), 16 VCC (power)

## DS7832W/883
designator U?
Dual Tri-State Line Driver; Published: 15-Apr-2002; LatestRevisionDate: 06-Jun-2005; LatestRevisionNote: Stylized 3D Model Added.; DatasheetVersion: 1996; PackageVersion: 2000; PackageReference: W16A; Publisher: Altium Limited; PackageDescription: DFP; 16 Leads; Body 9.9 x 7.6 mm (LxW max); Pitch 1.27 mm; ComponentLink1Description: Manufacturer Link; ComponentLink1URL: http://www.national.com/; ComponentLink2Description: Discontinuation Notice; ComponentLink2URL: http://www.national.com/obs/obsolescence.txt
footprint W16A (DFP; 16 Leads; Body 9.9 x 7.6 mm (LxW max); Pitch 1.27 mm)
3D model W16A (DFP; 16 Leads; Body 9.9 x 7.6 mm (LxW max); Pitch 1.27 mm)
pins: 1 B OUT DIS (in), 2 B OUT DIS (in), 3 OUT B2 (hiz), 4 IN B2 (in), 5 OUT B1 (hiz), 6 IN B1 (in), 7 DIFF/SEMC (in), 8 GND (power), 9 DIFF/SEMC (in), 10 IN A1 (in), 11 OUT A1 (hiz), 12 IN A2 (in), 13 OUT A2 (hiz), 14 A OUT DIS (in), 15 A OUT DIS (in), 16 VCC (power)

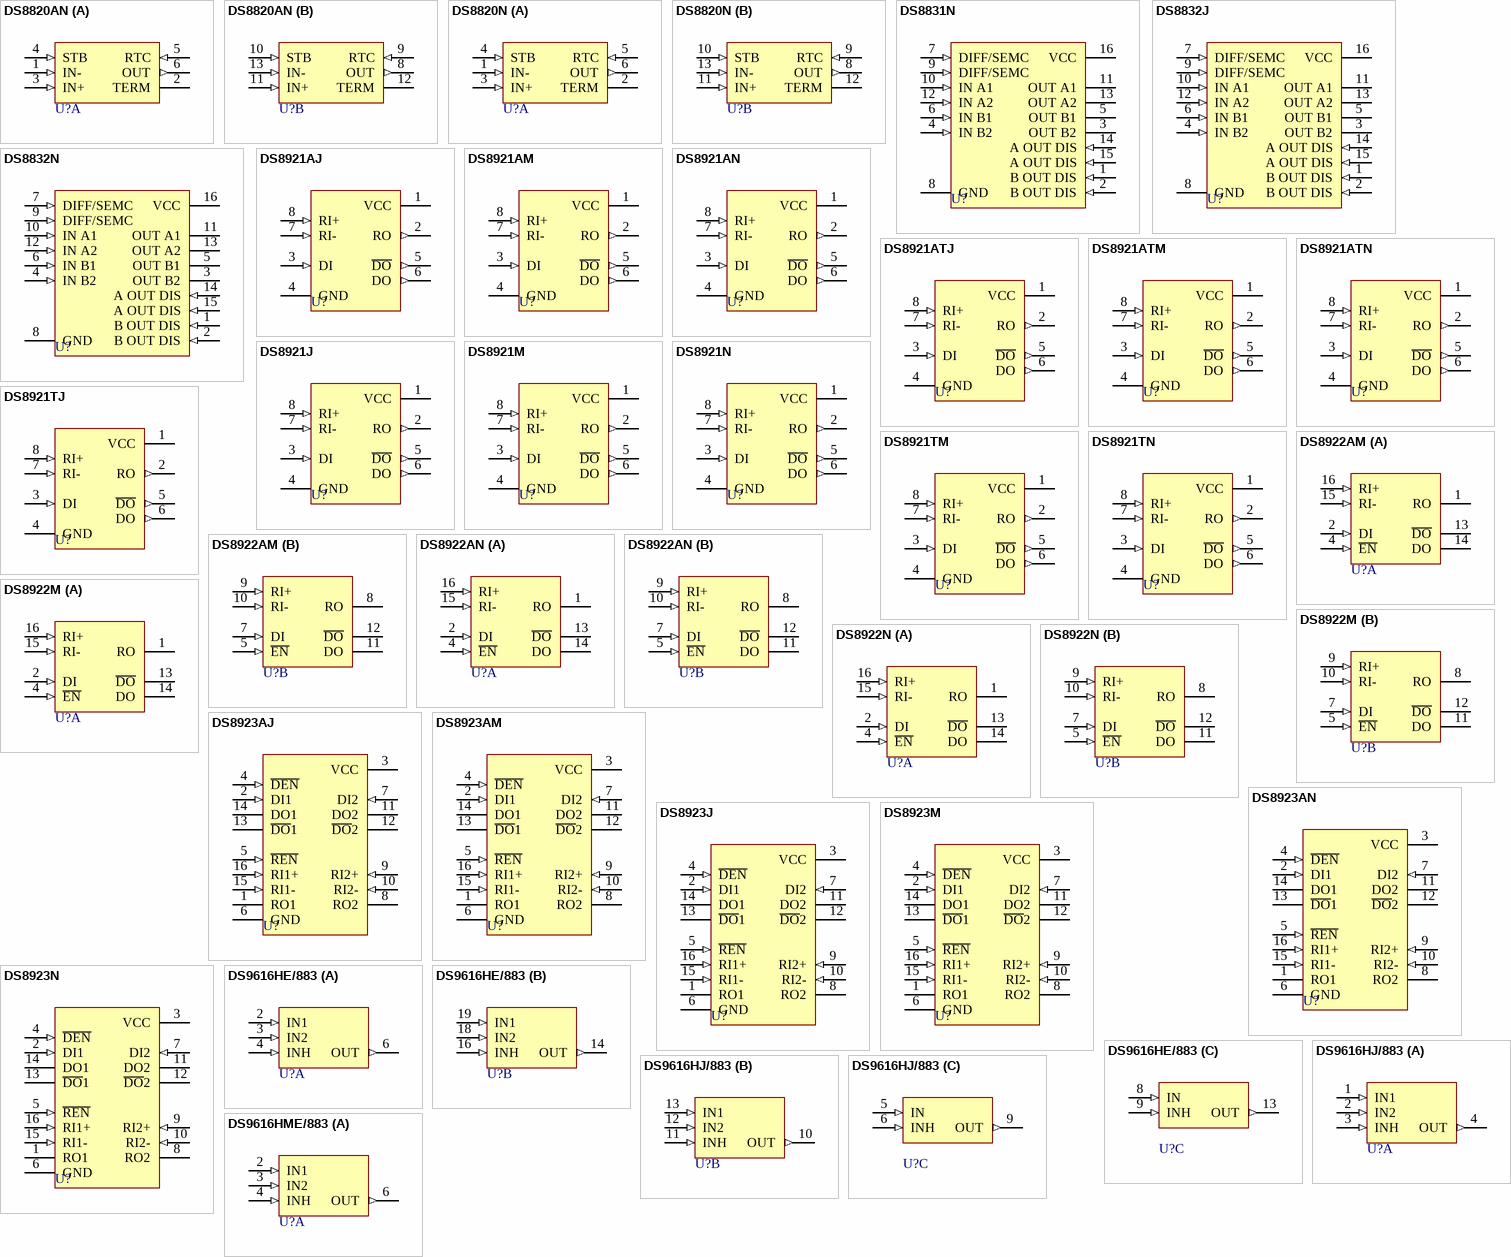
[diagram p1: symbols DS8820AN to DS9616HME/883]

## DS8820AN
designator U?
Dual Line Receiver; ComponentAvailability: Obsolete; Published: 15-Apr-2002; LatestRevisionDate: 06-Jun-2005; LatestRevisionNote: Stylized 3D Model Added.; DatasheetVersion: May-1999; PackageVersion: 2000; PackageReference: N14A; Publisher: Altium Limited; PackageDescription: DIP; 14 Leads; Row Spacing 7.62 mm; Pitch 2.54 mm; ComponentLink1Description: Manufacturer Link; ComponentLink1URL: http://www.national.com/; ComponentLink2Description: Discontinuation Notice; ComponentLink2URL: http://www.national.com/obs/obsolescence.txt; ComponentLink3Description: URL Link1; ComponentLink3URL: http://www.national.com/pf/DS/DS8820A.html
footprint N14A (DIP; 14 Leads; Row Spacing 7.62 mm; Pitch 2.54 mm)
3D model N14A (DIP; 14 Leads; Row Spacing 7.62 mm; Pitch 2.54 mm)
pins on every part: 7 GND (power) hidden to GND, 14 VCC (power) hidden to VCC
part A pins: 1 IN- (in), 2 TERM, 3 IN+ (in), 4 STB (in), 5 RTC (in), 6 OUT (out)
part B pins: 8 OUT (out), 9 RTC (in), 10 STB (in), 11 IN+ (in), 12 TERM, 13 IN- (in)

## DS8820N
designator U?
Dual Line Receiver; ComponentAvailability: Obsolete; Published: 15-Apr-2002; LatestRevisionDate: 06-Jun-2005; LatestRevisionNote: Stylized 3D Model Added.; DatasheetVersion: 1996; PackageVersion: 2000; PackageReference: N14A; Publisher: Altium Limited; PackageDescription: DIP; 14 Leads; Row Spacing 7.62 mm; Pitch 2.54 mm; ComponentLink1Description: Manufacturer Link; ComponentLink1URL: http://www.national.com/; ComponentLink2Description: Discontinuation Notice; ComponentLink2URL: http://www.national.com/obs/obsolescence.txt
footprint N14A (DIP; 14 Leads; Row Spacing 7.62 mm; Pitch 2.54 mm)
3D model N14A (DIP; 14 Leads; Row Spacing 7.62 mm; Pitch 2.54 mm)
pins on every part: 7 GND (power) hidden to GND, 14 VCC (power) hidden to VCC
part A pins: 1 IN- (in), 2 TERM, 3 IN+ (in), 4 STB (in), 5 RTC (in), 6 OUT (out)
part B pins: 8 OUT (out), 9 RTC (in), 10 STB (in), 11 IN+ (in), 12 TERM, 13 IN- (in)

## DS8831N
designator U?
Dual Tri-State Line Driver; ComponentAvailability: Obsolete; Published: 15-Apr-2002; LatestRevisionDate: 06-Jun-2005; LatestRevisionNote: Stylized 3D Model Added.; DatasheetVersion: 1996; PackageVersion: 2000; PackageReference: N16A; Publisher: Altium Limited; PackageDescription: DIP; 16 Leads; Row Spacing 7.62 mm; Pitch 2.54 mm; ComponentLink1Description: Manufacturer Link; ComponentLink1URL: http://www.national.com/; ComponentLink2Description: Discontinuation Notice; ComponentLink2URL: http://www.national.com/obs/obsolescence.txt
footprint N16A (DIP; 16 Leads; Row Spacing 7.62 mm; Pitch 2.54 mm)
3D model N16A (DIP; 16 Leads; Row Spacing 7.62 mm; Pitch 2.54 mm)
pins: 1 B OUT DIS (in), 2 B OUT DIS (in), 3 OUT B2 (hiz), 4 IN B2 (in), 5 OUT B1 (hiz), 6 IN B1 (in), 7 DIFF/SEMC (in), 8 GND (power), 9 DIFF/SEMC (in), 10 IN A1 (in), 11 OUT A1 (hiz), 12 IN A2 (in), 13 OUT A2 (hiz), 14 A OUT DIS (in), 15 A OUT DIS (in), 16 VCC (power)

## DS8832J
designator U?
Dual Tri-State Line Driver; Published: 15-Apr-2002; LatestRevisionDate: 06-Jun-2005; LatestRevisionNote: Stylized 3D Model Added.; DatasheetVersion: May-1999; PackageVersion: 2000; PackageReference: J16A; Publisher: Altium Limited; PackageDescription: DIP; 16 Leads; Row Spacing 7.62 mm; Pitch 2.54 mm; ComponentLink1Description: Manufacturer Link; ComponentLink1URL: http://www.national.com/; ComponentLink2Description: Datasheet; ComponentLink2URL: http://www.national.com/ds.cgi/DS/DS7831.pdf; ComponentLink3Description: URL Link1; ComponentLink3URL: http://www.national.com/pf/DS/DS8832.html
footprint J16A (DIP; 16 Leads; Row Spacing 7.62 mm; Pitch 2.54 mm)
3D model J16A (DIP; 16 Leads; Row Spacing 7.62 mm; Pitch 2.54 mm)
pins: 1 B OUT DIS (in), 2 B OUT DIS (in), 3 OUT B2 (hiz), 4 IN B2 (in), 5 OUT B1 (hiz), 6 IN B1 (in), 7 DIFF/SEMC (in), 8 GND (power), 9 DIFF/SEMC (in), 10 IN A1 (in), 11 OUT A1 (hiz), 12 IN A2 (in), 13 OUT A2 (hiz), 14 A OUT DIS (in), 15 A OUT DIS (in), 16 VCC (power)

## DS8832N
designator U?
Dual Tri-State Line Driver; ComponentAvailability: Obsolete; Published: 15-Apr-2002; LatestRevisionDate: 06-Jun-2005; LatestRevisionNote: Stylized 3D Model Added.; DatasheetVersion: May-1999; PackageVersion: 2000; PackageReference: N16A; Publisher: Altium Limited; PackageDescription: DIP; 16 Leads; Row Spacing 7.62 mm; Pitch 2.54 mm; ComponentLink1Description: Manufacturer Link; ComponentLink1URL: http://www.national.com/; ComponentLink2Description: Datasheet; ComponentLink2URL: http://www.national.com/ds.cgi/DS/DS7831.pdf; ComponentLink3Description: Discontinuation Notice; ComponentLink3URL: http://www.national.com/obs/obsolescence.txt; ComponentLink4Description: URL Link1; ComponentLink4URL: http://www.national.com/pf/DS/DS8832.html
footprint N16A (DIP; 16 Leads; Row Spacing 7.62 mm; Pitch 2.54 mm)
3D model N16A (DIP; 16 Leads; Row Spacing 7.62 mm; Pitch 2.54 mm)
pins: 1 B OUT DIS (in), 2 B OUT DIS (in), 3 OUT B2 (hiz), 4 IN B2 (in), 5 OUT B1 (hiz), 6 IN B1 (in), 7 DIFF/SEMC (in), 8 GND (power), 9 DIFF/SEMC (in), 10 IN A1 (in), 11 OUT A1 (hiz), 12 IN A2 (in), 13 OUT A2 (hiz), 14 A OUT DIS (in), 15 A OUT DIS (in), 16 VCC (power)

## DS8921AJ
designator U?
Differential Line Driver and Receiver Pair; Published: 15-Apr-2002; LatestRevisionDate: 06-Jun-2005; LatestRevisionNote: Stylized 3D Model Added.; DatasheetVersion: 1990; PackageVersion: 2000; PackageReference: J08A; Publisher: Altium Limited; PackageDescription: DIP; 8 Leads; Row Spacing 7.62 mm; Pitch 2.54 mm; ComponentLink1Description: Manufacturer Link; ComponentLink1URL: http://www.national.com/
footprint J08A (DIP; 8 Leads; Row Spacing 7.62 mm; Pitch 2.54 mm)
3D model N08E (DIP; 8 Leads; Row Spacing 7.62 mm; Pitch 2.54 mm)
pins: 1 VCC (power), 2 RO (out), 3 DI (in), 4 GND (power), 5 ~{DO} (out), 6 DO (out), 7 RI- (in), 8 RI+ (in)

## DS8921AM
designator U?
Differential Line Driver and Receiver Pair; Published: 15-Apr-2002; LatestRevisionDate: 13-Apr-2006; LatestRevisionNote: IPC-7351 Footprint Added.; DatasheetVersion: May-1998; PackageVersion: Sep-1997; PackageReference: M08A; Publisher: Altium Limited; PackageDescription: 8-Pin Small Outline Integrated Circuit 1.27 mm Pitch; Code_JEDEC: MS-012-AA; Code_IPC: SOIC127P600-8; ComponentLink1Description: Manufacturer Link; ComponentLink1URL: http://www.national.com/; ComponentLink2Description: Datasheet; ComponentLink2URL: http://www.national.com/ds.cgi/DS/DS8921.pdf; ComponentLink3Description: URL Link1; ComponentLink3URL: http://www.national.com/pf/DS/DS8921A.html
footprint M08A_N (SOIC, 8-Leads, Body 4.9x3.9mm, Pitch 1.27mm, IPC Medium Density)
footprint M08A_L (SOIC, 8-Leads, Body 4.9x3.9mm, Pitch 1.27mm, IPC High Density)
footprint M08A_M (SOIC, 8-Leads, Body 4.9x3.9mm, Pitch 1.27mm, IPC Low Density)
3D model M08A (8-Pin Small Outline Integrated Circuit 1.27 mm Pitch)
pins: 1 VCC (power), 2 RO (out), 3 DI (in), 4 GND (power), 5 ~{DO} (out), 6 DO (out), 7 RI- (in), 8 RI+ (in)

## DS8921AN
designator U?
Differential Line Driver and Receiver Pair; ComponentAvailability: Obsolete; Published: 15-Apr-2002; LatestRevisionDate: 06-Jun-2005; LatestRevisionNote: Stylized 3D Model Added.; DatasheetVersion: May-1998; PackageVersion: Sep-1997; PackageReference: N08E; Publisher: Altium Limited; PackageDescription: DIP; 8 Leads; Row Spacing 7.62 mm; Pitch 2.54 mm; ComponentLink1Description: Manufacturer Link; ComponentLink1URL: http://www.national.com/; ComponentLink2Description: Datasheet; ComponentLink2URL: http://www.national.com/ds.cgi/DS/DS8921.pdf; ComponentLink3Description: Discontinuation Notice; ComponentLink3URL: http://www.national.com/obs/obsolescence.txt; ComponentLink4Description: URL Link1; ComponentLink4URL: http://www.national.com/pf/DS/DS8921A.html
footprint N08E (DIP; 8 Leads; Row Spacing 7.62 mm; Pitch 2.54 mm)
3D model N08E (DIP; 8 Leads; Row Spacing 7.62 mm; Pitch 2.54 mm)
pins: 1 VCC (power), 2 RO (out), 3 DI (in), 4 GND (power), 5 ~{DO} (out), 6 DO (out), 7 RI- (in), 8 RI+ (in)

## DS8921ATJ
designator U?
Differential Line Driver and Receiver Pair; ComponentAvailability: Obsolete; Published: 15-Apr-2002; LatestRevisionDate: 06-Jun-2005; LatestRevisionNote: Stylized 3D Model Added.; DatasheetVersion: 1990; PackageVersion: 2000; PackageReference: J08A; Publisher: Altium Limited; PackageDescription: DIP; 8 Leads; Row Spacing 7.62 mm; Pitch 2.54 mm; ComponentLink1Description: Manufacturer Link; ComponentLink1URL: http://www.national.com/; ComponentLink2Description: Datasheet; ComponentLink2URL: http://www.national.com/ds.cgi/DS/DS8921.pdf; ComponentLink3Description: Discontinuation Notice; ComponentLink3URL: http://www.national.com/obs/obsolescence.txt; ComponentLink4Description: URL Link1; ComponentLink4URL: http://www.national.com/pf/DS/DS8921A.html
footprint J08A (DIP; 8 Leads; Row Spacing 7.62 mm; Pitch 2.54 mm)
3D model N08E (DIP; 8 Leads; Row Spacing 7.62 mm; Pitch 2.54 mm)
pins: 1 VCC (power), 2 RO (out), 3 DI (in), 4 GND (power), 5 ~{DO} (out), 6 DO (out), 7 RI- (in), 8 RI+ (in)

## DS8921ATM
designator U?
Differential Line Driver and Receiver Pair; Published: 15-Apr-2002; LatestRevisionDate: 13-Apr-2006; LatestRevisionNote: IPC-7351 Footprint Added.; DatasheetVersion: May-1998; PackageVersion: Sep-1997; PackageReference: M08A; Publisher: Altium Limited; PackageDescription: 8-Pin Small Outline Integrated Circuit 1.27 mm Pitch; Code_JEDEC: MS-012-AA; Code_IPC: SOIC127P600-8; ComponentLink1Description: Manufacturer Link; ComponentLink1URL: http://www.national.com/; ComponentLink2Description: Datasheet; ComponentLink2URL: http://www.national.com/ds.cgi/DS/DS8921.pdf; ComponentLink3Description: URL Link1; ComponentLink3URL: http://www.national.com/pf/DS/DS8921A.html
footprint M08A_N (SOIC, 8-Leads, Body 4.9x3.9mm, Pitch 1.27mm, IPC Medium Density)
footprint M08A_L (SOIC, 8-Leads, Body 4.9x3.9mm, Pitch 1.27mm, IPC High Density)
footprint M08A_M (SOIC, 8-Leads, Body 4.9x3.9mm, Pitch 1.27mm, IPC Low Density)
3D model M08A (8-Pin Small Outline Integrated Circuit 1.27 mm Pitch)
pins: 1 VCC (power), 2 RO (out), 3 DI (in), 4 GND (power), 5 ~{DO} (out), 6 DO (out), 7 RI- (in), 8 RI+ (in)

## DS8921ATN
designator U?
Differential Line Driver and Receiver Pair; ComponentAvailability: Obsolete; Published: 15-Apr-2002; LatestRevisionDate: 06-Jun-2005; LatestRevisionNote: Stylized 3D Model Added.; DatasheetVersion: May-1998; PackageVersion: Sep-1997; PackageReference: N08E; Publisher: Altium Limited; PackageDescription: DIP; 8 Leads; Row Spacing 7.62 mm; Pitch 2.54 mm; ComponentLink1Description: Manufacturer Link; ComponentLink1URL: http://www.national.com/; ComponentLink2Description: Datasheet; ComponentLink2URL: http://www.national.com/ds.cgi/DS/DS8921.pdf; ComponentLink3Description: Discontinuation Notice; ComponentLink3URL: http://www.national.com/obs/obsolescence.txt; ComponentLink4Description: URL Link1; ComponentLink4URL: http://www.national.com/pf/DS/DS8921A.html
footprint N08E (DIP; 8 Leads; Row Spacing 7.62 mm; Pitch 2.54 mm)
3D model N08E (DIP; 8 Leads; Row Spacing 7.62 mm; Pitch 2.54 mm)
pins: 1 VCC (power), 2 RO (out), 3 DI (in), 4 GND (power), 5 ~{DO} (out), 6 DO (out), 7 RI- (in), 8 RI+ (in)

## DS8921J
designator U?
Differential Line Driver and Receiver Pair; Published: 15-Apr-2002; LatestRevisionDate: 06-Jun-2005; LatestRevisionNote: Stylized 3D Model Added.; DatasheetVersion: 1990; PackageVersion: 2000; PackageReference: J08A; Publisher: Altium Limited; PackageDescription: DIP; 8 Leads; Row Spacing 7.62 mm; Pitch 2.54 mm; ComponentLink1Description: Manufacturer Link; ComponentLink1URL: http://www.national.com/
footprint J08A (DIP; 8 Leads; Row Spacing 7.62 mm; Pitch 2.54 mm)
3D model N08E (DIP; 8 Leads; Row Spacing 7.62 mm; Pitch 2.54 mm)
pins: 1 VCC (power), 2 RO (out), 3 DI (in), 4 GND (power), 5 ~{DO} (out), 6 DO (out), 7 RI- (in), 8 RI+ (in)

## DS8921M
designator U?
Differential Line Driver and Receiver Pair; Published: 15-Apr-2002; LatestRevisionDate: 13-Apr-2006; LatestRevisionNote: IPC-7351 Footprint Added.; DatasheetVersion: May-1998; PackageVersion: Sep-1997; PackageReference: M08A; Publisher: Altium Limited; PackageDescription: 8-Pin Small Outline Integrated Circuit 1.27 mm Pitch; Code_JEDEC: MS-012-AA; Code_IPC: SOIC127P600-8; ComponentLink1Description: Manufacturer Link; ComponentLink1URL: http://www.national.com/; ComponentLink2Description: Datasheet; ComponentLink2URL: http://www.national.com/ds.cgi/DS/DS8921.pdf; ComponentLink3Description: URL Link1; ComponentLink3URL: http://www.national.com/pf/DS/DS8921.html
footprint M08A_N (SOIC, 8-Leads, Body 4.9x3.9mm, Pitch 1.27mm, IPC Medium Density)
footprint M08A_L (SOIC, 8-Leads, Body 4.9x3.9mm, Pitch 1.27mm, IPC High Density)
footprint M08A_M (SOIC, 8-Leads, Body 4.9x3.9mm, Pitch 1.27mm, IPC Low Density)
3D model M08A (8-Pin Small Outline Integrated Circuit 1.27 mm Pitch)
pins: 1 VCC (power), 2 RO (out), 3 DI (in), 4 GND (power), 5 ~{DO} (out), 6 DO (out), 7 RI- (in), 8 RI+ (in)

## DS8921N
designator U?
Differential Line Driver and Receiver Pair; Published: 15-Apr-2002; LatestRevisionDate: 06-Jun-2005; LatestRevisionNote: Stylized 3D Model Added.; DatasheetVersion: May-1998; PackageVersion: Sep-1997; PackageReference: N08E; Publisher: Altium Limited; PackageDescription: DIP; 8 Leads; Row Spacing 7.62 mm; Pitch 2.54 mm; ComponentLink1Description: Manufacturer Link; ComponentLink1URL: http://www.national.com/; ComponentLink2Description: Datasheet; ComponentLink2URL: http://www.national.com/ds.cgi/DS/DS8921.pdf; ComponentLink3Description: URL Link1; ComponentLink3URL: http://www.national.com/pf/DS/DS8921.html
footprint N08E (DIP; 8 Leads; Row Spacing 7.62 mm; Pitch 2.54 mm)
3D model N08E (DIP; 8 Leads; Row Spacing 7.62 mm; Pitch 2.54 mm)
pins: 1 VCC (power), 2 RO (out), 3 DI (in), 4 GND (power), 5 ~{DO} (out), 6 DO (out), 7 RI- (in), 8 RI+ (in)

## DS8921TJ
designator U?
Differential Line Driver and Receiver Pair; Published: 15-Apr-2002; LatestRevisionDate: 06-Jun-2005; LatestRevisionNote: Stylized 3D Model Added.; DatasheetVersion: 1990; PackageVersion: 2000; PackageReference: J08A; Publisher: Altium Limited; PackageDescription: DIP; 8 Leads; Row Spacing 7.62 mm; Pitch 2.54 mm; ComponentLink1Description: Manufacturer Link; ComponentLink1URL: http://www.national.com/
footprint J08A (DIP; 8 Leads; Row Spacing 7.62 mm; Pitch 2.54 mm)
3D model N08E (DIP; 8 Leads; Row Spacing 7.62 mm; Pitch 2.54 mm)
pins: 1 VCC (power), 2 RO (out), 3 DI (in), 4 GND (power), 5 ~{DO} (out), 6 DO (out), 7 RI- (in), 8 RI+ (in)

## DS8921TM
designator U?
Differential Line Driver and Receiver Pair; Published: 15-Apr-2002; LatestRevisionDate: 13-Apr-2006; LatestRevisionNote: IPC-7351 Footprint Added.; DatasheetVersion: 1990; PackageVersion: Sep-1997; PackageReference: M08A; Publisher: Altium Limited; PackageDescription: 8-Pin Small Outline Integrated Circuit 1.27 mm Pitch; Code_JEDEC: MS-012-AA; Code_IPC: SOIC127P600-8; ComponentLink1Description: Manufacturer Link; ComponentLink1URL: http://www.national.com/
footprint M08A_N (SOIC, 8-Leads, Body 4.9x3.9mm, Pitch 1.27mm, IPC Medium Density)
footprint M08A_L (SOIC, 8-Leads, Body 4.9x3.9mm, Pitch 1.27mm, IPC High Density)
footprint M08A_M (SOIC, 8-Leads, Body 4.9x3.9mm, Pitch 1.27mm, IPC Low Density)
3D model M08A (8-Pin Small Outline Integrated Circuit 1.27 mm Pitch)
pins: 1 VCC (power), 2 RO (out), 3 DI (in), 4 GND (power), 5 ~{DO} (out), 6 DO (out), 7 RI- (in), 8 RI+ (in)

## DS8921TN
designator U?
Differential Line Driver and Receiver Pair; Published: 15-Apr-2002; LatestRevisionDate: 06-Jun-2005; LatestRevisionNote: Stylized 3D Model Added.; DatasheetVersion: 1990; PackageVersion: Sep-1997; PackageReference: N08E; Publisher: Altium Limited; PackageDescription: DIP; 8 Leads; Row Spacing 7.62 mm; Pitch 2.54 mm; ComponentLink1Description: Manufacturer Link; ComponentLink1URL: http://www.national.com/
footprint N08E (DIP; 8 Leads; Row Spacing 7.62 mm; Pitch 2.54 mm)
3D model N08E (DIP; 8 Leads; Row Spacing 7.62 mm; Pitch 2.54 mm)
pins: 1 VCC (power), 2 RO (out), 3 DI (in), 4 GND (power), 5 ~{DO} (out), 6 DO (out), 7 RI- (in), 8 RI+ (in)

## DS8922AM
designator U?
Tri-State RS-422 Dual Differential Line Driver and Receiver Pairs; Published: 15-Apr-2002; LatestRevisionDate: 13-Apr-2006; LatestRevisionNote: IPC-7351 Footprint Added.; DatasheetVersion: Jun-1998; PackageVersion: 2000; PackageReference: M16A; Publisher: Altium Limited; PackageDescription: 16-Pin Small Outline Integrated Circuit 1.27 mm Pitch; Code_IPC: SOIC127P600-16; ComponentLink1Description: Manufacturer Link; ComponentLink1URL: http://www.national.com/; ComponentLink2Description: Datasheet; ComponentLink2URL: http://www.national.com/ds.cgi/DS/DS8922.pdf; ComponentLink3Description: URL Link1; ComponentLink3URL: http://www.national.com/pf/DS/DS8922A.html
footprint M16A_N (SOIC, 16-Leads, Body 9.9x3.9mm, Pitch 1.27mm, IPC Medium Density)
footprint M16A_L (SOIC, 16-Leads, Body 9.9x3.9mm, Pitch 1.27mm, IPC High Density)
footprint M16A_M (SOIC, 16-Leads, Body 9.9x3.9mm, Pitch 1.27mm, IPC Low Density)
3D model M16A (16-Pin Small Outline Integrated Circuit 1.27 mm Pitch)
pins on every part: 3 VCC (power) hidden to VCC, 6 GND (power) hidden to GND
part A pins: 1 RO (hiz), 2 DI (in), 4 ~{EN} (in), 13 ~{DO} (hiz), 14 DO (hiz), 15 RI- (in), 16 RI+ (in)
part B pins: 5 ~{EN} (in), 7 DI (in), 8 RO (hiz), 9 RI+ (in), 10 RI- (in), 11 DO (hiz), 12 ~{DO} (hiz)

## DS8922AN
designator U?
Tri-State RS-422 Dual Differential Line Driver and Receiver Pairs; Published: 15-Apr-2002; LatestRevisionDate: 06-Jun-2005; LatestRevisionNote: Stylized 3D Model Added.; DatasheetVersion: Jun-1998; PackageVersion: 2000; PackageReference: N16E; Publisher: Altium Limited; PackageDescription: DIP; 16 Leads; Row Spacing 7.62 mm; Pitch 2.54 mm; ComponentLink1Description: Manufacturer Link; ComponentLink1URL: http://www.national.com/; ComponentLink2Description: Datasheet; ComponentLink2URL: http://www.national.com/ds.cgi/DS/DS8922.pdf; ComponentLink3Description: URL Link1; ComponentLink3URL: http://www.national.com/pf/DS/DS8922A.html
footprint N16E (DIP; 16 Leads; Row Spacing 7.62 mm; Pitch 2.54 mm)
3D model J16A (DIP; 16 Leads; Row Spacing 7.62 mm; Pitch 2.54 mm)
pins on every part: 3 VCC (power) hidden to VCC, 6 GND (power) hidden to GND
part A pins: 1 RO (hiz), 2 DI (in), 4 ~{EN} (in), 13 ~{DO} (hiz), 14 DO (hiz), 15 RI- (in), 16 RI+ (in)
part B pins: 5 ~{EN} (in), 7 DI (in), 8 RO (hiz), 9 RI+ (in), 10 RI- (in), 11 DO (hiz), 12 ~{DO} (hiz)

## DS8922M
designator U?
Tri-State RS-422 Dual Differential Line Driver and Receiver Pairs; Published: 15-Apr-2002; LatestRevisionDate: 13-Apr-2006; LatestRevisionNote: IPC-7351 Footprint Added.; DatasheetVersion: Jun-1998; PackageVersion: 2000; PackageReference: M16A; Publisher: Altium Limited; PackageDescription: 16-Pin Small Outline Integrated Circuit 1.27 mm Pitch; Code_IPC: SOIC127P600-16; ComponentLink1Description: Manufacturer Link; ComponentLink1URL: http://www.national.com/; ComponentLink2Description: Datasheet; ComponentLink2URL: http://www.national.com/ds.cgi/DS/DS8922.pdf; ComponentLink3Description: URL Link1; ComponentLink3URL: http://www.national.com/pf/DS/DS8922A.html
footprint M16A_N (SOIC, 16-Leads, Body 9.9x3.9mm, Pitch 1.27mm, IPC Medium Density)
footprint M16A_L (SOIC, 16-Leads, Body 9.9x3.9mm, Pitch 1.27mm, IPC High Density)
footprint M16A_M (SOIC, 16-Leads, Body 9.9x3.9mm, Pitch 1.27mm, IPC Low Density)
3D model M16A (16-Pin Small Outline Integrated Circuit 1.27 mm Pitch)
pins on every part: 3 VCC (power) hidden to VCC, 6 GND (power) hidden to GND
part A pins: 1 RO (hiz), 2 DI (in), 4 ~{EN} (in), 13 ~{DO} (hiz), 14 DO (hiz), 15 RI- (in), 16 RI+ (in)
part B pins: 5 ~{EN} (in), 7 DI (in), 8 RO (hiz), 9 RI+ (in), 10 RI- (in), 11 DO (hiz), 12 ~{DO} (hiz)